# EAGLE library part SFW24R-1STE1LF (library PiezoFFC)
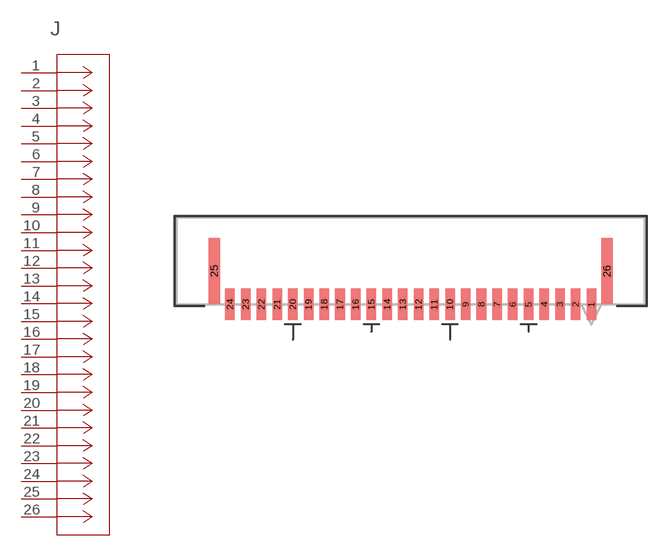
[diagram p18: symbol with the pads of CON24_1X24_DRB_SFW; footprint CON24_1X24_DRB_SFW]

Designator prefix J

## SFW24R-1STE1LF (MANUFACTURER_PART_NUMBER: SFW24R1STE1LF; VENDOR: FCI)  [CON24_1X24_DRB_SFW]
1  11  pas
2  22  pas
3  33  pas
4  44  pas
5  55  pas
6  66  pas
7  77  pas
8  88  pas
9  99  pas
10  1010  pas
11  1111  pas
12  1212  pas
13  1313  pas
14  1414  pas
15  1515  pas
16  1616  pas
17  1717  pas
18  1818  pas
19  1919  pas
20  2020  pas
21  2121  pas
22  2222  pas
23  2323  pas
24  2424  pas
25  2525  pas
26  2626  pas

## Footprint CON24_1X24_DRB_SFW (pad centres in mm)
smd 0.61 x 2.007: 1 11.5,2.756; 2 10.5,2.756; 3 9.5,2.756; 4 8.5,2.756; 5 7.5,2.756; 6 6.5,2.756; 7 5.5,2.756; 8 4.5,2.756; 9 3.5,2.756; 10 2.5,2.756; 11 1.5,2.756; 12 0.5,2.756; 13 -0.5,2.756; 14 -1.5,2.756; 15 -2.5,2.756; 16 -3.5,2.756; 17 -4.5,2.756; 18 -5.5,2.756; 19 -6.5,2.756; 20 -7.5,2.756; 21 -8.5,2.756; 22 -9.5,2.756; 23 -10.5,2.756; 24 -11.5,2.756
smd 0.711 x 4.191: 25 -12.497,4.864; 26 12.497,4.864